# Altium integrated library Delay_Sensor_lib.IntLib: 10 symbols
Pins are listed as number, name and electrical type; pins without a type are passive.

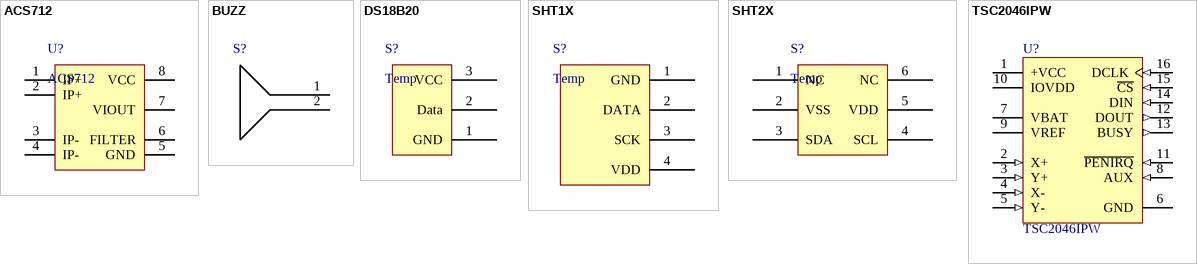
[diagram p0: symbols ACS712 to TSC2046IPW]

## ACS712
designator U?
电流检测芯片
footprint SO-8 (SOIC)
pins: 1 IP+, 2 IP+, 3 IP-, 4 IP-, 5 GND, 6 FILTER, 7 VIOUT, 8 VCC

## BUZZ
designator S?  (value not drawn)
蜂鸣器
footprint Buzzer
pins: 1, 2

## DS18B20
designator S?, comment Temp
温度传感器
footprint TO92C
pins: 1 GND, 2 Data, 3 VCC

## SHT1X
designator S?, comment Temp
温湿度传感器
footprint SHT1X-8P (温湿度传感器SHT1X系列)
pins: 1 GND, 2 DATA, 3 SCK, 4 VDD

## SHT2X
designator S?, comment Temp
温湿度传感器
footprint SHT2X
pins: 1 NC, 2 VSS, 3 SDA, 4 SCL, 5 VDD, 6 NC

## TSC2046IPW
designator U?
触摸驱动芯片; Published: 6-Oct-2005; DatasheetVersion: Jan-2005; PackageVersion: Feb-1999; PackageReference: PW016; Publisher: Altium Limited; PackageDescription: Shrink Small Outline; 16 Leads; Body Width 4.4 mm; Pitch 0.65 mm; ComponentLink1Description: Manufacturer Link; ComponentLink1URL: http://focus.ti.com/docs/prod/folders/print/tsc2046.html; ComponentLink2Description: Datasheet; ComponentLink2URL: http://focus.ti.com/lit/ds/symlink/tcs2046.pdf
footprint PW016 (Shrink Small Outline; 16 Leads; Body Width 4.4 mm; Pitch 0.65 mm)
pins: 1 +VCC (power), 2 X+ (in), 3 Y+ (in), 4 X- (in), 5 Y- (in), 6 GND (power), 7 VBAT (power), 8 AUX (in), 9 VREF (power), 10 IOVDD (power), 11 ~{PENIRQ} (in), 12 DOUT (out), 13 BUSY (out), 14 DIN (in), 15 ~{CS} (in), 16 DCLK (in)


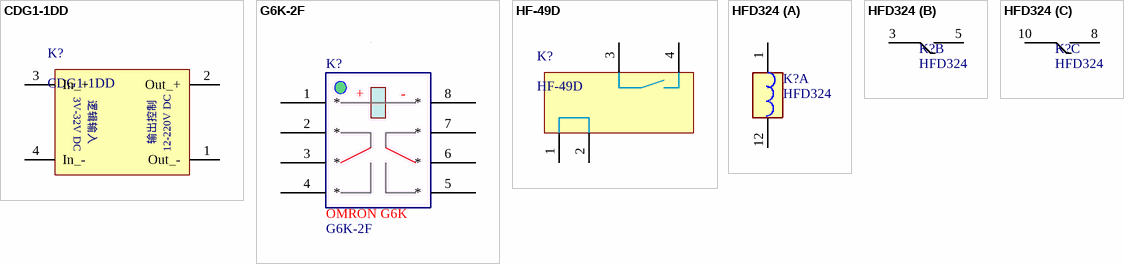
[diagram p1: symbols CDG1-1DD to HFD324]

## CDG1-1DD
designator K?
固态继电器（SSR）
footprint CDG1_1
pins: 1 Out_-, 2 Out_+, 3 In_+, 4 In_-
text: 3V-32V DC; 逻辑输入; 输出控制; 12-220V DC

## G6K-2F
designator K?
欧姆龙贴片式继电器
footprint G6K-2G
pins: 1 *, 2 *, 3 *, 4 *, 5 *, 6 *, 7 *, 8 *
2 alternate drawings of the same symbol
text: +; -; OMRON G6K

## HF-49D
designator K?
宏发继电器
footprint HF49FD
pins: 1, 2, 3, 4

## HFD324
designator K?
宏发继电器
footprint HFD324
part A pins: 1, 12
part B pins: 3, 5
part C pins: 8, 10
2 alternate drawings of the same symbol